# Altium footprint library qudong.PcbLib: 19 footprints (part 2 of 2)
Each footprint in its own frame and in the unit in brackets; x right, y up, seen from the top. Pads: shape width x height; smd on the part's side, far side on the other; paste and mask are expansions set on the pad; w line width, h text height; cw(c..) or ccw(c..) is an arc to the next point about the centre after c.
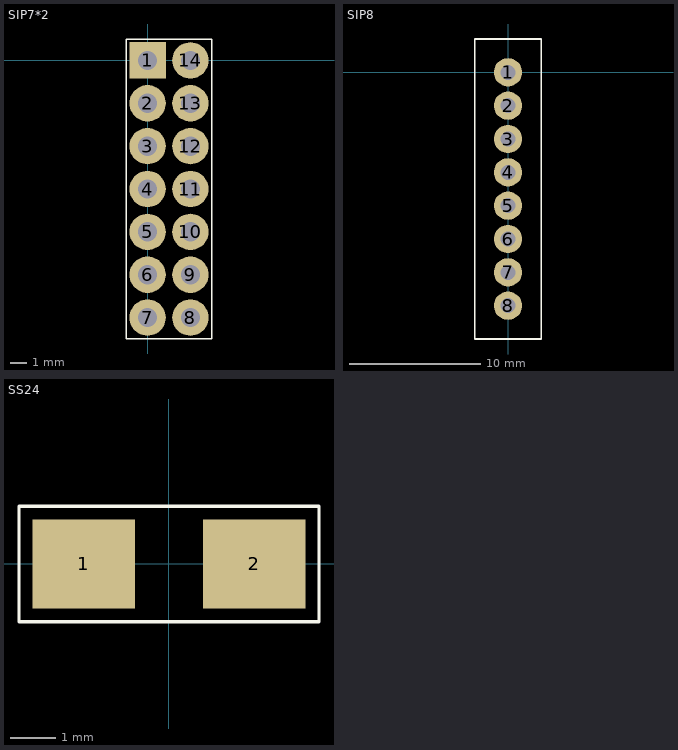
[diagram p1: the footprints below, top view; thin cyan lines are the x and y axes]

## SIP7*2 [mil]
pads (14):
  rect 85x85 hole 45: 1(0,0)
  round 85 hole 45: 2(0,-100) 3(0,-200) 4(0,-300) 5(0,-400) 6(0,-500) 7(0,-600) 8(100,-600) 9(100,-500) 10(100,-400) 11(100,-300) 12(100,-200) 13(100,-100) 14(100,0)
Top Overlay:
  lines w3: -50,-650 -50,50 150,50 150,-650 -50,-650

## SIP8 [mil]
pads (8):
  round 85 hole 45: 1(0,0) 2(0,-100) 3(0,-200) 4(0,-300) 5(0,-400) 6(0,-500) 7(0,-600) 8(0,-700)
Top Overlay:
  lines w5: -100,-800 100,-800 100,100 -100,100 -100,-800

## SS24 [mm] "Molded Capacitor, 2-Leads, Body 4.5x3.0mm, IPC Medium Density"
height 2
pads (2):
  rect 2.25x1.95 smd: 1(-1.875,0) 2(1.875,0)
Top Overlay:
  lines w0.076: -3.302,-1.27 3.302,-1.27 3.302,1.27 -3.302,1.27 -3.302,-1.27